# EAGLE library part PI3740-00-LGIZ (library PI3740-00-LGIZ)
Switching Voltage Regulators 8-60V/24V 60W Buck-Boost Regulator Source: Datasheet <http://www.vicorpower.com/documents/datasheets/Picor/ds_pi3740-00.pdf>
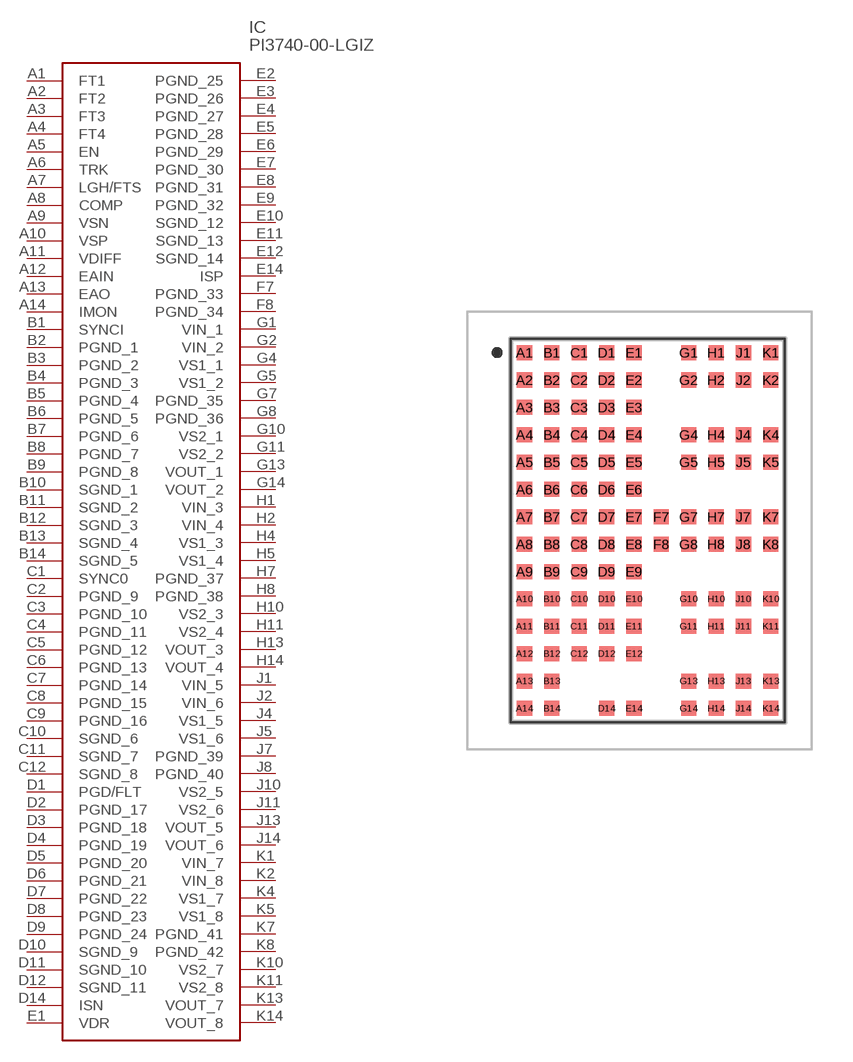
[diagram p0: symbol with the pads of PI374000LGIZ; footprint PI374000LGIZ]

Designator prefix IC

## PI3740-00-LGIZ (Description: Switching Voltage Regulators 8-60V/24V 60W Buck-Boost Regulator; Height: 3mm; Manufacturer_Name: VICOR; Manufacturer_Part_Number: PI3740-00-LGIZ; Mouser_Part_Number: 492-PI3740-00-LGIZ; Mouser_Price-Stock: https://www.mouser.co.uk/ProductDetail/Vicor/PI3740-00-LGIZ?qs=a4BXICGgSn%252BoSXcvpONfOA%3D%3D)  [PI374000LGIZ]
A1  FT1
A2  FT2
A3  FT3
A4  FT4
A5  EN
A6  TRK
A7  LGH/FTS
A8  COMP
A9  VSN
A10  VSP
A11  VDIFF
A12  EAIN
A13  EAO
A14  IMON
B1  SYNCI
B2  PGND_1
B3  PGND_2
B4  PGND_3
B5  PGND_4
B6  PGND_5
B7  PGND_6
B8  PGND_7
B9  PGND_8
B10  SGND_1
B11  SGND_2
B12  SGND_3
B13  SGND_4
B14  SGND_5
C1  SYNC0
C2  PGND_9
C3  PGND_10
C4  PGND_11
C5  PGND_12
C6  PGND_13
C7  PGND_14
C8  PGND_15
C9  PGND_16
C10  SGND_6
C11  SGND_7
C12  SGND_8
D1  PGD/FLT
D2  PGND_17
D3  PGND_18
D4  PGND_19
D5  PGND_20
D6  PGND_21
D7  PGND_22
D8  PGND_23
D9  PGND_24
D10  SGND_9
D11  SGND_10
D12  SGND_11
D14  ISN
E1  VDR
E2  PGND_25
E3  PGND_26
E4  PGND_27
E5  PGND_28
E6  PGND_29
E7  PGND_30
E8  PGND_31
E9  PGND_32
E10  SGND_12
E11  SGND_13
E12  SGND_14
E14  ISP
F7  PGND_33
F8  PGND_34
G1  VIN_1
G2  VIN_2
G4  VS1_1
G5  VS1_2
G7  PGND_35
G8  PGND_36
G10  VS2_1
G11  VS2_2
G13  VOUT_1
G14  VOUT_2
H1  VIN_3
H2  VIN_4
H4  VS1_3
H5  VS1_4
H7  PGND_37
H8  PGND_38
H10  VS2_3
H11  VS2_4
H13  VOUT_3
H14  VOUT_4
J1  VIN_5
J2  VIN_6
J4  VS1_5
J5  VS1_6
J7  PGND_39
J8  PGND_40
J10  VS2_5
J11  VS2_6
J13  VOUT_5
J14  VOUT_6
K1  VIN_7
K2  VIN_8
K4  VS1_7
K5  VS1_8
K7  PGND_41
K8  PGND_42
K10  VS2_7
K11  VS2_8
K13  VOUT_7
K14  VOUT_8

## Footprint PI374000LGIZ (pad centres in mm)
10 x 14 108-pin LGA
smd 0.55 x 0.55: A1 -4.2,6.5; A2 -4.2,5.5; A3 -4.2,4.5; A4 -4.2,3.5; A5 -4.2,2.5; A6 -4.2,1.5; A7 -4.2,0.5; A8 -4.2,-0.5; A9 -4.2,-1.5; A10 -4.2,-2.5; A11 -4.2,-3.5; A12 -4.2,-4.5; A13 -4.2,-5.5; A14 -4.2,-6.5; B1 -3.2,6.5; B2 -3.2,5.5; B3 -3.2,4.5; B4 -3.2,3.5; B5 -3.2,2.5; B6 -3.2,1.5; B7 -3.2,0.5; B8 -3.2,-0.5; B9 -3.2,-1.5; B10 -3.2,-2.5; B11 -3.2,-3.5; B12 -3.2,-4.5; B13 -3.2,-5.5; B14 -3.2,-6.5; C1 -2.2,6.5; C2 -2.2,5.5; C3 -2.2,4.5; C4 -2.2,3.5; C5 -2.2,2.5; C6 -2.2,1.5; C7 -2.2,0.5; C8 -2.2,-0.5; C9 -2.2,-1.5; C10 -2.2,-2.5; C11 -2.2,-3.5; C12 -2.2,-4.5; D1 -1.2,6.5; D2 -1.2,5.5; D3 -1.2,4.5; D4 -1.2,3.5; D5 -1.2,2.5; D6 -1.2,1.5; D7 -1.2,0.5; D8 -1.2,-0.5; D9 -1.2,-1.5; D10 -1.2,-2.5; D11 -1.2,-3.5; D12 -1.2,-4.5; D14 -1.2,-6.5; E1 -0.2,6.5; E2 -0.2,5.5; E3 -0.2,4.5; E4 -0.2,3.5; E5 -0.2,2.5; E6 -0.2,1.5; E7 -0.2,0.5; E8 -0.2,-0.5; E9 -0.2,-1.5; E10 -0.2,-2.5; E11 -0.2,-3.5; E12 -0.2,-4.5; E14 -0.2,-6.5; F7 0.8,0.5; F8 0.8,-0.5; G1 1.8,6.5; G2 1.8,5.5; G4 1.8,3.5; G5 1.8,2.5; G7 1.8,0.5; G8 1.8,-0.5; G10 1.8,-2.5; G11 1.8,-3.5; G13 1.8,-5.5; G14 1.8,-6.5; H1 2.8,6.5; H2 2.8,5.5; H4 2.8,3.5; H5 2.8,2.5; H7 2.8,0.5; H8 2.8,-0.5; H10 2.8,-2.5; H11 2.8,-3.5; H13 2.8,-5.5; H14 2.8,-6.5; J1 3.8,6.5; J2 3.8,5.5; J4 3.8,3.5; J5 3.8,2.5; J7 3.8,0.5; J8 3.8,-0.5; J10 3.8,-2.5; J11 3.8,-3.5; J13 3.8,-5.5; J14 3.8,-6.5; K1 4.8,6.5; K2 4.8,5.5; K4 4.8,3.5; K5 4.8,2.5; K7 4.8,0.5; K8 4.8,-0.5; K10 4.8,-2.5; K11 4.8,-3.5; K13 4.8,-5.5; K14 4.8,-6.5